# EAGLE library part TLV75533PDRVR (library TLV75533PDRVR)
500-mA low-IQ small-size low-dropout (LDO) regulator Source: Datasheet <http://www.ti.com/lit/gpn/tlv755p>
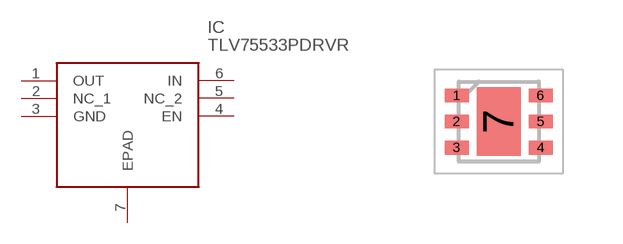
[diagram p0: symbol with the pads of SON65P200X200X80-7N; footprint SON65P200X200X80-7N]

Designator prefix IC

## TLV75533PDRVR (Arrow_Part_Number: TLV75533PDRVR; Arrow_Price-Stock: https://www.arrow.com/en/products/tlv75533pdrvr/texas-instruments?utm_currency=USD&region=nac; Description: 500-mA low-IQ small-size low-dropout (LDO) regulator; Height: 0.8mm; Manufacturer_Name: Texas Instruments; Manufacturer_Part_Number: TLV75533PDRVR; Mouser_Part_Number: 595-TLV75533PDRVR; Mouser_Price-Stock: https://www.mouser.co.uk/ProductDetail/Texas-Instruments/TLV75533PDRVR?qs=lc2O%252BfHJPVbmKlktYGVy6A%3D%3D)  [SON65P200X200X80-7N]
1  OUT
2  NC_1
3  GND
4  EN
5  NC_2
6  IN
7  EPAD

## Footprint SON65P200X200X80-7N (pad centres in mm)
DRV0006A
smd 0.6 x 0.35: 1 -1.05,0.65; 2 -1.05,0; 3 -1.05,-0.65; 4 1.05,-0.65; 5 1.05,0; 6 1.05,0.65
smd 1.1 x 1.7: 7 0,0